# EAGLE library part 692122030100 (library WR-USB)
WR-COM USB 3.0 Type A Horizontal SMD Kind Properties Durability:5 000 Mating cycles Connector Type:USB Gender:Receptacle Type:Horizontal General Information Operating Temperature:-20up to +85 °C Electrical Properties Working Voltage:30V (AC) Withstanding Voltage:100V (AC) Contact Resistance:30 mΩ Material Properties Insulator Material:LCP Insulator Flammability Rating:UL94 V-0 Color:Blue Contact Material:Phosphor Bronze Contact Plating:Gold, min. 0.76µm over Nickel / Matte Tin over nickel Contact Type:Stamped Shielding Material:Brass Shielding Material:Matte Tin <https://www.we-online.com/catalog/media/o33029v209%20Family_WR-COM_692122030100.jpg> Details see: https://www.we-online.com/catalog/en/COM_3_0_SMT_TYPE_A_HORIZONTAL/ Updated by Ella Wu 2021-09-28 2021 (C) Würth Elektronik
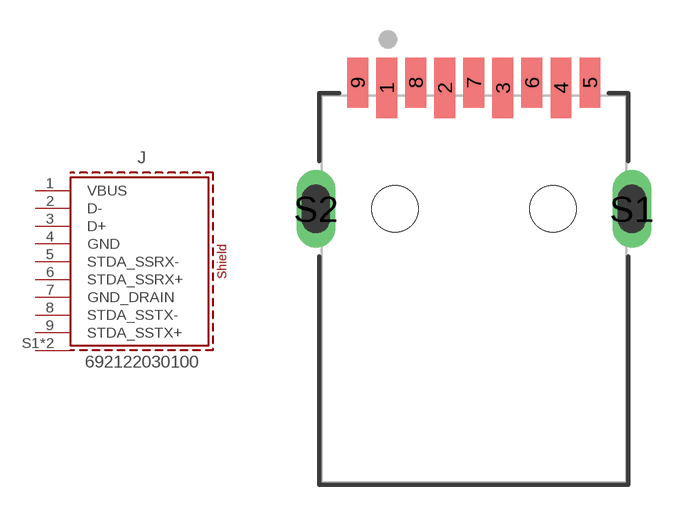
[diagram p1: symbol with the pads of 692122030100; footprint 692122030100]

Designator prefix J

## 692122030100 (APPLICATION: USB 3.0; DATASHEET-URL: https://www.we-online.com/redexpert/spec/692122030100?ae; GERDER: Receptacle; INTERFACE-TYPE: Type A; IR: 1.8A; MOUNT: SMT; PACKAGING: Tape and Reel; PART-NUMBER: 692122030100; PINS: 9; TYPE: Horizontal; VALUE: 692122030100; WORKING-VOLTAGE: 30V(AC))  [692122030100]
1  VBUS  pas
2  D-  pas
3  D+  pas
4  GND  pas
5  STDA_SSRX-  pas
6  STDA_SSRX+  pas
7  GND_DRAIN  pas
8  STDA_SSTX-  pas
9  STDA_SSTX+  pas
S1  SHIELD  pas
S2  SHIELD  pas

## Footprint 692122030100 (pad centres in mm)
WR-COM USB 3.0 Type A Horizontal SMD
smd 0.9 x 2.6: 1 -3.75,8.67; 2 -1.25,8.67; 3 1.25,8.67; 4 3.75,8.67
smd 0.9 x 2.15: 5 5,8.895; 6 2.5,8.895; 7 0,8.895; 8 -2.5,8.895; 9 -5,8.895
drill 1.12 long: S1 6.8,3.45; S2 -6.8,3.45
hole 2 at -3.4,3.45
hole 2 at 3.4,3.45